# EAGLE library part HF-GEHÄUSE_PFL3 (library 1A-meinLib)
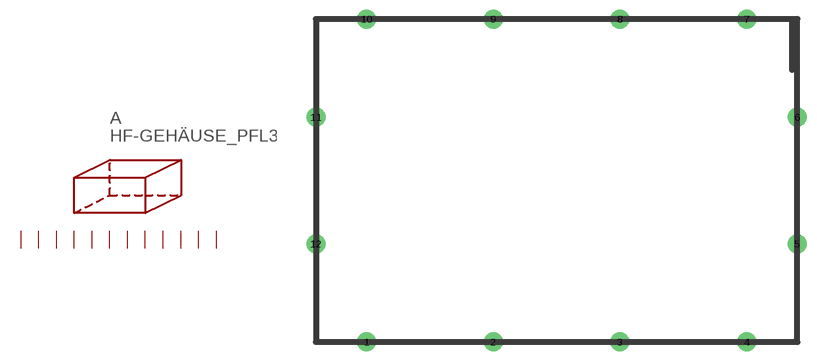
[diagram p154: symbol with the pads of HF-GEHÄUSE-PFL3; footprint HF-GEHÄUSE-PFL3]

Designator prefix A

## HF-GEHÄUSE_PFL3  [HF-GEHÄUSE-PFL3]
1  P$1  pas
2  P$2  pas
3  P$3  pas
4  P$4  pas
5  P$5  pas
6  P$6  pas
7  P$7  pas
8  P$8  pas
9  P$9  pas
10  P$10  pas
11  P$11  pas
12  P$12  pas

## Footprint HF-GEHÄUSE-PFL3 (pad centres in mm)
PCB Frame & fingered LID, HF-Gehäuse 50x75x25, PFL3 PERANCEA LTD
drill 2 round: 1 0,0; 2 20,0; 3 40,0; 4 60,0; 5 68,15.5; 6 68,35.5; 7 60,51; 8 40,51; 9 20,51; 10 0,51; 11 -8,35.5; 12 -8,15.5